# EAGLE library part MCM6709R (library memory-sram)
MEMORY
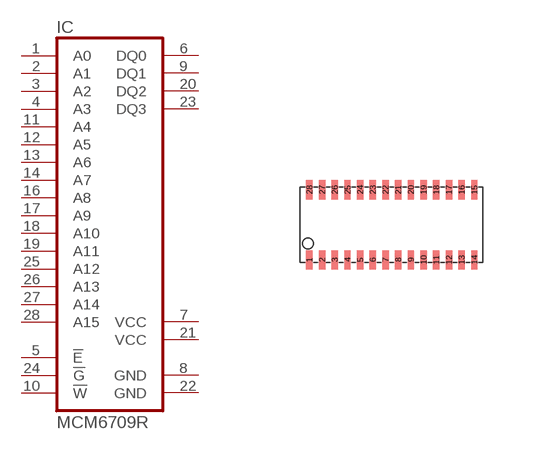
[diagram p27: symbol with the pads of SOJ28/3; footprint SOJ28/3]

Designator prefix IC

## MCM6709R  [SOJ28/3]
1  A0  in
2  A1  in
3  A2  in
4  A3  in
5  !E  in
6  DQ0
7  VCC  pwr
8  GND  pwr
9  DQ1
10  !W  in
11  A4  in
12  A5  in
13  A6  in
14  A7  in
16  A8  in
17  A9  in
18  A10  in
19  A11  in
20  DQ2
21  VCC  pwr
22  GND  pwr
23  DQ3
24  !G  in
25  A12  in
26  A13  in
27  A14  in
28  A15  in

## Footprint SOJ28/3 (pad centres in mm)
Small Outline J-Bend
smd 0.159 x 0.476: 1 -2.064,-0.876; 2 -1.746,-0.876; 3 -1.429,-0.876; 4 -1.111,-0.876; 5 -0.794,-0.876; 6 -0.476,-0.876; 7 -0.159,-0.876; 8 0.159,-0.876; 9 0.476,-0.876; 10 0.794,-0.876; 11 1.111,-0.876; 12 1.429,-0.876; 13 1.746,-0.876; 14 2.064,-0.876; 15 2.064,0.876; 16 1.746,0.876; 17 1.429,0.876; 18 1.111,0.876; 19 0.794,0.876; 20 0.476,0.876; 21 0.159,0.876; 22 -0.159,0.876; 23 -0.476,0.876; 24 -0.794,0.876; 25 -1.111,0.876; 26 -1.429,0.876; 27 -1.746,0.876; 28 -2.064,0.876